# Altium footprint library CRCW040252K3FKED.PcbLib: 3 footprints
Each footprint in its own frame and in the unit in brackets; x right, y up, seen from the top. Pads: shape width x height; smd on the part's side, far side on the other; paste and mask are expansions set on the pad; w line width, h text height; cw(c..) or ccw(c..) is an arc to the next point about the centre after c.
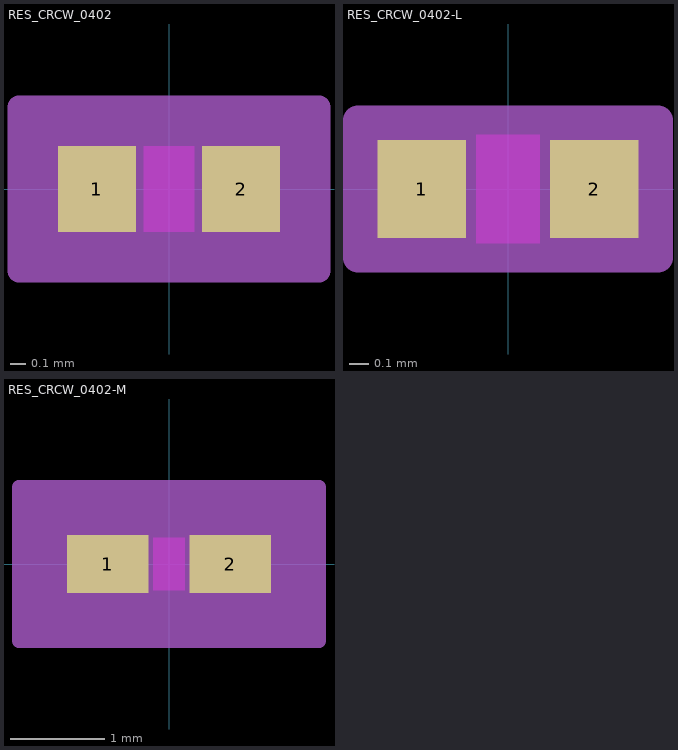
[diagram p0: the footprints below, top view; thin cyan lines are the x and y axes]

## RES_CRCW_0402 [mil]
pads (2):
  rect 20x22 smd paste-11 mask-11: 1(-18.5,0) 2(18.5,0)
Top Layer keep-out:
  region: -6.5,-9 -6.5,9 6.5,9 6.5,-9
Top Overlay:
  text ".Designator" at -137.5,-25 h50
Keep-Out Layer:
  region: -6.5,-11 -6.5,11 6.5,11 6.5,-11
Mechanical 13:
  lines w1: -20.5,-11 -20.5,11 ; -20.5,-11 -8.5,-11 -8.5,11 -20.5,11 ; -20.5,-11 20.5,-11 ; -20.5,-11 -20.5,11 ; -20.5,11 20.5,11 ; 20.5,-11 8.5,-11 8.5,11 20.5,11 ; 20.5,-11 20.5,11 ; 20.5,-11 20.5,11
  text ".Designator" at -137.5,-25 h50
Mechanical 15:
  region: 38.5,-21 -38.5,-21 -38.5,21 38.5,21
  lines w6: -38.5,-21 -38.5,21 38.5,21 38.5,-21 -38.5,-21
3D body "RES_CRCW_0402.step": height 15.98, standoff 0, extent -20.51,-10.98 20.51,10.98

## RES_CRCW_0402-L [mil]
pads (2):
  rect 18x20 smd paste+0 mask+0: 1(-17.5,0) 2(17.5,0)
Top Layer keep-out:
  region: -6.5,-9 -6.5,9 6.5,9 6.5,-9
Top Overlay:
  text ".Designator" at -137.5,-25 h50
Keep-Out Layer:
  region: -6.5,-11 -6.5,11 6.5,11 6.5,-11
Mechanical 13:
  lines w1: -20.5,-11 -20.5,11 ; -20.5,-11 -8.5,-11 -8.5,11 -20.5,11 ; -20.5,-11 20.5,-11 ; -20.5,-11 -20.5,11 ; -20.5,11 20.5,11 ; 20.5,-11 8.5,-11 8.5,11 20.5,11 ; 20.5,-11 20.5,11 ; 20.5,-11 20.5,11
  text ".Designator" at -137.5,-25 h50
Mechanical 15:
  region: 30.5,-14 -30.5,-14 -30.5,14 30.5,14
  lines w6: -30.5,-14 -30.5,14 30.5,14 30.5,-14 -30.5,-14
3D body "RES_CRCW_0402.step": height 15.98, standoff 0, extent -20.51,-10.98 20.51,10.98

## RES_CRCW_0402-M [mil]
pads (2):
  rect 34x24 smd paste+0 mask+0: 1(-25.5,0) 2(25.5,0)
Top Layer keep-out:
  region: -6.5,-9 -6.5,9 6.5,9 6.5,-9
Top Overlay:
  text ".Designator" at -137.5,-25 h50
Keep-Out Layer:
  region: -6.5,-11 -6.5,11 6.5,11 6.5,-11
Mechanical 13:
  lines w1: -20.5,-11 -20.5,11 ; -20.5,-11 -8.5,-11 -8.5,11 -20.5,11 ; -20.5,-11 20.5,-11 ; -20.5,-11 -20.5,11 ; -20.5,11 20.5,11 ; 20.5,-11 8.5,-11 8.5,11 20.5,11 ; 20.5,-11 20.5,11 ; 20.5,-11 20.5,11
  text ".Designator" at -137.5,-25 h50
Mechanical 15:
  region: 62.5,-32 -62.5,-32 -62.5,32 62.5,32
  lines w6: -62.5,-32 -62.5,32 62.5,32 62.5,-32 -62.5,-32
3D body "RES_CRCW_0402.step": height 15.98, standoff 0, extent -20.51,-10.98 20.51,10.98